# Altium integrated library PD4859J5050S2HF.IntLib: 1 symbol
Pins are listed as number, name and electrical type; pins without a type are passive.

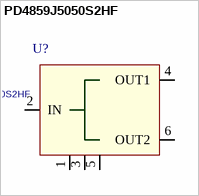
[diagram p0: symbol PD4859J5050S2HF]

## PD4859J5050S2HF
designator U?
PDF: http://www.anaren.com/sites/default/files/Part-Datasheets/PD4859J5050S2HF_Datasheet_RevB.pdf; ID: PD4859J5050S2HF; PRICE: 0.68000; BUY_LINK: http://www.digikey.com/product-detail/en/PD4859J5050S2HF/1173-1101-1-ND/3069300
footprint PD4859J5050S2HF
pins: 1 GND, 2 IN, 3 GND, 4 OUT1, 5 GND, 6 OUT2